# Altium integrated library OPAMP_TLC271.IntLib: 1 symbol
Pins are listed as number, name and electrical type; pins without a type are passive.

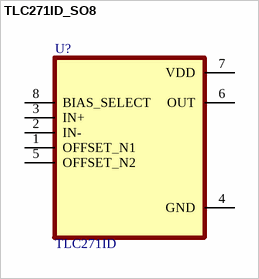
[diagram p0: symbol TLC271ID_SO8]

## TLC271ID_SO8
designator U?, comment TLC271ID
General purpose amplifier 1 Circuit; Package: None; Price: None; Value: *; MP: TLC271ID; Availability: Unavailable; Supplier 1: Mouser; Supplier Part Number 1: 595-TLC271ID
footprint SO8-5.5x6.5 (SOIC, 8-Leads, Body 6.5x5.6mm (max), Pitch 1.27mm, IPC Medium Density)
pins: 1 OFFSET_N1, 2 IN-, 3 IN+, 4 GND (power), 5 OFFSET_N2, 6 OUT, 7 VDD (power), 8 BIAS_SELECT